# Altium schematic symbol library 3G30A.SchLib: 1 symbol
Pins are listed as number, name and electrical type; pins without a type are passive.

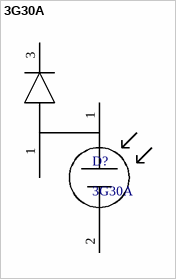
[diagram p0: symbol 3G30A]

## 3G30A
designator D?
Single solar cell
footprint 3G30A
pins: 1, 1, 2, 3